# Altium integrated library NSC Interface.IntLib: 1288 symbols (part 1 of 45)
Pins are listed as number, name and electrical type; pins without a type are passive.

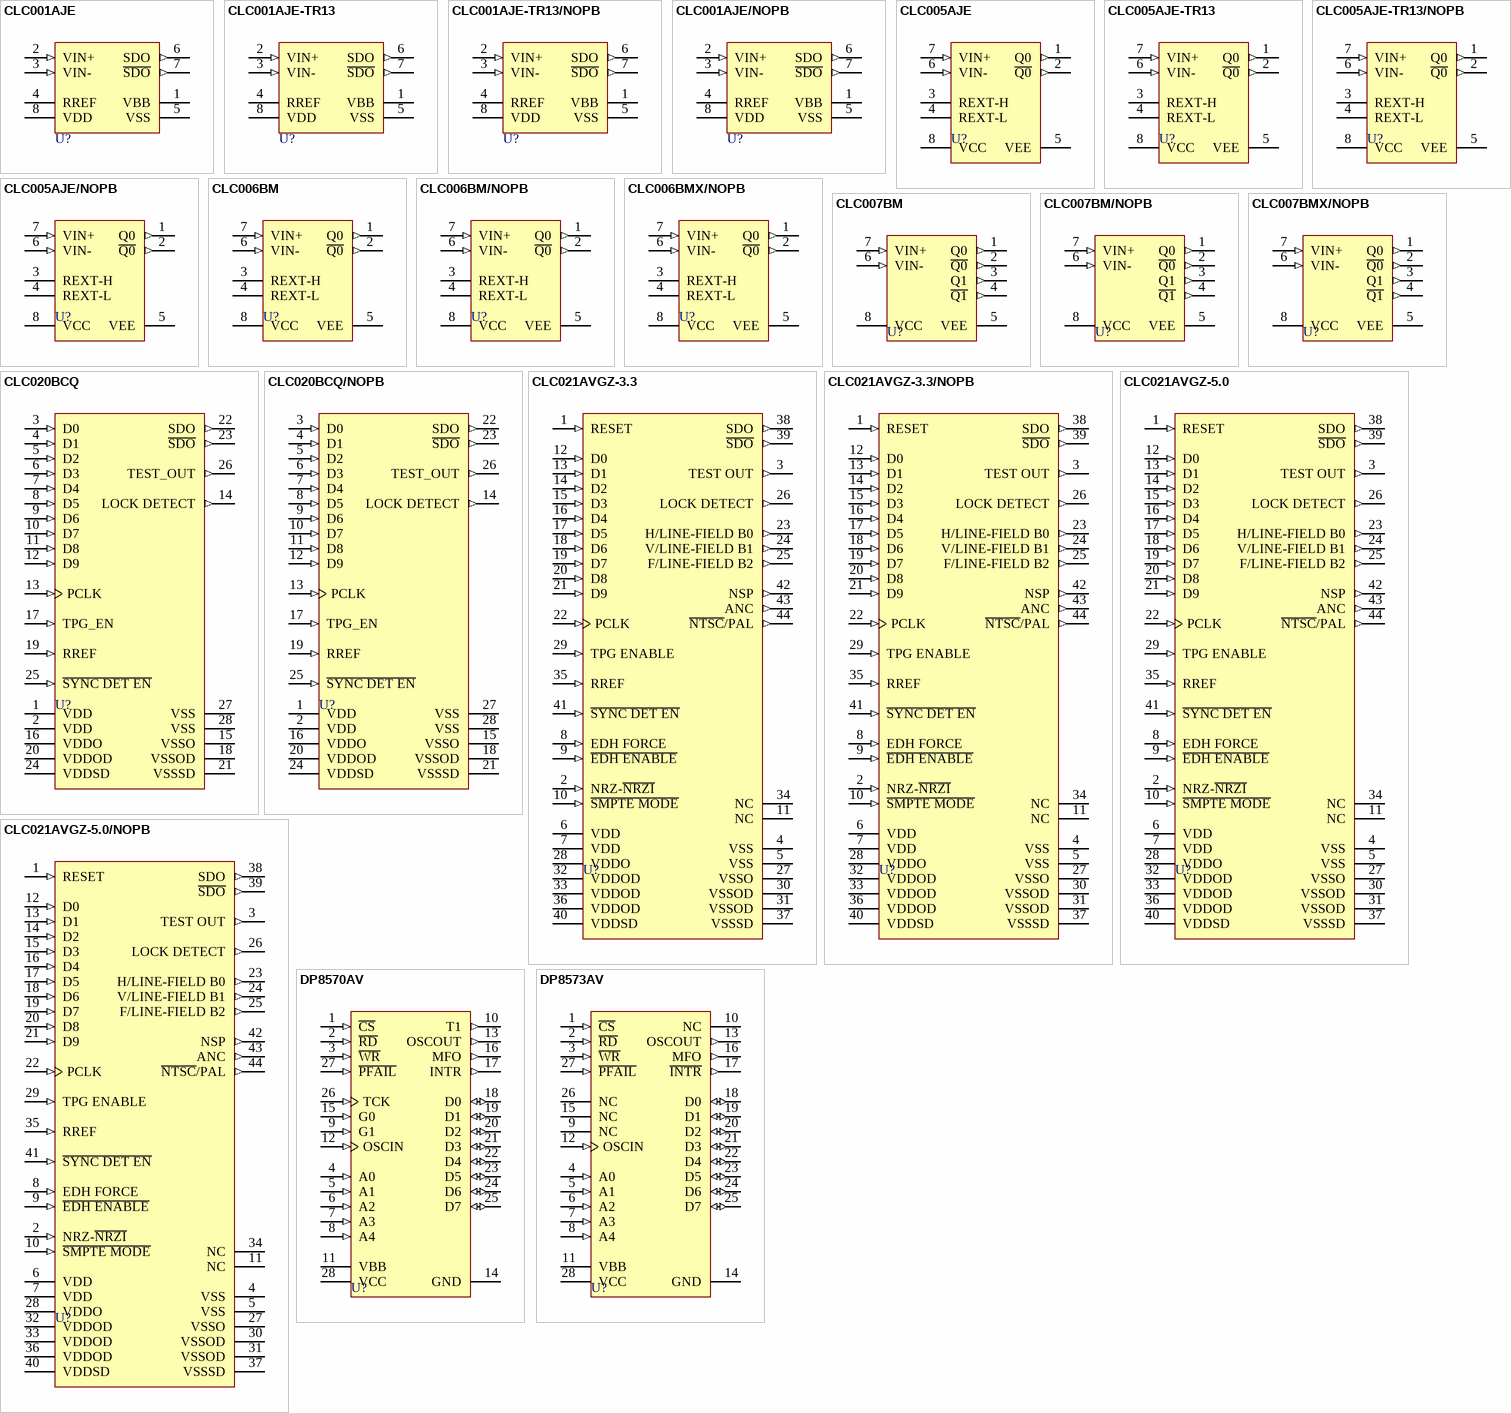
[diagram p0: symbols CLC001AJE to DP8573AV]

## CLC001AJE
designator U?
Serial Digital Cable Driver with Adjustable Outputs, 8-pin Narrow SOIC; PartNumber: CLC001AJE; Manufacturer: National Semiconductor; PackageTopMarking: NSZXTT*CLC00*1AJE; PowerWise: N; CompType: Interface IC; Published: 4-Dec-2008; DatasheetVersion: Feb-2006; PackageVersion: revM, May-2009; PackageReference: M08A; Publisher: Altium Limited; PackageDescription: SOIC Narrow, 4.9 x 3.9 x 1.45mm, 8 Lead, 1.27mm Pitch; RoHS: N; PinCount: 8; Code_JEDEC: MS-012-AA; Code_IPC: SOIC127P600-8; ComponentLink1Description: CLC001 Datasheet; ComponentLink1URL: http://www.national.com/ds/CL/CLC001.pdf; ComponentLink2Description: CLC001 Web Page; ComponentLink2URL: http://www.national.com/pf/CL/CLC001.html; ComponentLink3Description: M08A Package Page; ComponentLink3URL: http://www.national.com/packaging/folders/m08a.html
footprint M08A_N (SOIC, 8-Leads, Body 4.9x3.9mm, Pitch 1.27mm, IPC Medium Density)
footprint M08A_L (SOIC, 8-Leads, Body 4.9x3.9mm, Pitch 1.27mm, IPC High Density)
footprint M08A_M (SOIC, 8-Leads, Body 4.9x3.9mm, Pitch 1.27mm, IPC Low Density)
pins: 1 VBB (power), 2 VIN+ (in), 3 VIN- (in), 4 RREF, 5 VSS (power), 6 SDO (out), 7 ~{SDO} (out), 8 VDD (power)

## CLC001AJE-TR13
designator U?
Serial Digital Cable Driver with Adjustable Outputs, 8 pin SOIC NARROW; PartNumber: CLC001AJE-TR13; Manufacturer: National Semiconductor; PackageTopMarking: NSZXTT*CLC00*1AJE; PowerWise: N; CompType: Interface IC; Published: 16-Nov-2010; DatasheetVersion: Feb-2006; PackageVersion: revM, May-2009; PackageReference: M08A; Publisher: Altium Limited; PackageDescription: SOIC Narrow, 4.9 x 3.9 x 1.45mm, 8 Lead, 1.27mm Pitch; RoHS: N; PinCount: 8; Code_JEDEC: MS-012-AA; Code_IPC: SOIC127P600-8; ComponentLink1Description: CLC001 Datasheet; ComponentLink1URL: http://www.national.com/ds/CL/CLC001.pdf; ComponentLink2Description: CLC001 Web Page; ComponentLink2URL: http://www.national.com/pf/CL/CLC001.html; ComponentLink3Description: M08A Package Page; ComponentLink3URL: http://www.national.com/packaging/folders/m08a.html
footprint M08A_N (SOIC, 8-Leads, Body 4.9x3.9mm, Pitch 1.27mm, IPC Medium Density)
footprint M08A_L (SOIC, 8-Leads, Body 4.9x3.9mm, Pitch 1.27mm, IPC High Density)
footprint M08A_M (SOIC, 8-Leads, Body 4.9x3.9mm, Pitch 1.27mm, IPC Low Density)
pins: 1 VBB (power), 2 VIN+ (in), 3 VIN- (in), 4 RREF, 5 VSS (power), 6 SDO (out), 7 ~{SDO} (out), 8 VDD (power)

## CLC001AJE-TR13/NOPB
designator U?
Serial Digital Cable Driver with Adjustable Outputs, 8 pin SOIC NARROW; PartNumber: CLC001AJE-TR13/NOPB; Manufacturer: National Semiconductor; PackageTopMarking: NSZXTT*CLC00*1AJE; PowerWise: N; CompType: Interface IC; Published: 16-Nov-2010; DatasheetVersion: Feb-2006; PackageVersion: revM, May-2009; PackageReference: M08A; Publisher: Altium Limited; PackageDescription: SOIC Narrow, 4.9 x 3.9 x 1.45mm, 8 Lead, 1.27mm Pitch; Supplier 1: Digi-Key; Supplier Part Number 1: CLC001AJETR-ND; Supplier 2: Digi-Key; Supplier Part Number 2: CLC001AJECT-ND; Supplier 3: Digi-Key; Supplier Part Number 3: CLC001AJEDKR-ND; RoHS: Y; PinCount: 8; Code_JEDEC: MS-012-AA; Code_IPC: SOIC127P600-8; ComponentLink1Description: CLC001 Datasheet; ComponentLink1URL: http://www.national.com/ds/CL/CLC001.pdf; ComponentLink2Description: CLC001 Web Page; ComponentLink2URL: http://www.national.com/pf/CL/CLC001.html; ComponentLink3Description: M08A Package Page; ComponentLink3URL: http://www.national.com/packaging/folders/m08a.html
footprint M08A_N (SOIC, 8-Leads, Body 4.9x3.9mm, Pitch 1.27mm, IPC Medium Density)
footprint M08A_L (SOIC, 8-Leads, Body 4.9x3.9mm, Pitch 1.27mm, IPC High Density)
footprint M08A_M (SOIC, 8-Leads, Body 4.9x3.9mm, Pitch 1.27mm, IPC Low Density)
pins: 1 VBB (power), 2 VIN+ (in), 3 VIN- (in), 4 RREF, 5 VSS (power), 6 SDO (out), 7 ~{SDO} (out), 8 VDD (power)

## CLC001AJE/NOPB
designator U?
Serial Digital Cable Driver with Adjustable Outputs, 8 pin SOIC NARROW; PartNumber: CLC001AJE/NOPB; Manufacturer: National Semiconductor; PackageTopMarking: NSZXTT*CLC00*1AJE; PowerWise: N; CompType: Interface IC; Published: 16-Nov-2010; DatasheetVersion: Feb-2006; PackageVersion: revM, May-2009; PackageReference: M08A; Publisher: Altium Limited; PackageDescription: SOIC Narrow, 4.9 x 3.9 x 1.45mm, 8 Lead, 1.27mm Pitch; Supplier 1: Digi-Key; Supplier Part Number 1: CLC001AJE-ND; Supplier 2: Farnell; Supplier Part Number 2: 1693929; RoHS: Y; PinCount: 8; Code_JEDEC: MS-012-AA; Code_IPC: SOIC127P600-8; ComponentLink1Description: CLC001 Datasheet; ComponentLink1URL: http://www.national.com/ds/CL/CLC001.pdf; ComponentLink2Description: CLC001 Web Page; ComponentLink2URL: http://www.national.com/pf/CL/CLC001.html; ComponentLink3Description: M08A Package Page; ComponentLink3URL: http://www.national.com/packaging/folders/m08a.html
footprint M08A_N (SOIC, 8-Leads, Body 4.9x3.9mm, Pitch 1.27mm, IPC Medium Density)
footprint M08A_L (SOIC, 8-Leads, Body 4.9x3.9mm, Pitch 1.27mm, IPC High Density)
footprint M08A_M (SOIC, 8-Leads, Body 4.9x3.9mm, Pitch 1.27mm, IPC Low Density)
pins: 1 VBB (power), 2 VIN+ (in), 3 VIN- (in), 4 RREF, 5 VSS (power), 6 SDO (out), 7 ~{SDO} (out), 8 VDD (power)

## CLC005AJE
designator U?
ITU-T G.703 Cable Driver with Adjustable Outputs, 8-pin Narrow SOIC; PartNumber: CLC005AJE; Manufacturer: National Semiconductor; PackageTopMarking: NSZXTT*CLC00*5AJE; PowerWise: N; CompType: Interface IC; Published: 4-Dec-2008; DatasheetVersion: Aug-1998; PackageVersion: revM, May-2009; PackageReference: M08A; Publisher: Altium Limited; PackageDescription: SOIC Narrow, 4.9 x 3.9 x 1.45mm, 8 Lead, 1.27mm Pitch; RoHS: N; PinCount: 8; Code_JEDEC: MS-012-AA; Code_IPC: SOIC127P600-8; ComponentLink1Description: CLC005 Datasheet; ComponentLink1URL: http://www.national.com/ds/CL/CLC005.pdf; ComponentLink2Description: CLC005 Web Page; ComponentLink2URL: http://www.national.com/pf/CL/CLC005.html; ComponentLink3Description: M08A Package Page; ComponentLink3URL: http://www.national.com/packaging/folders/m08a.html
footprint M08A_N (SOIC, 8-Leads, Body 4.9x3.9mm, Pitch 1.27mm, IPC Medium Density)
footprint M08A_L (SOIC, 8-Leads, Body 4.9x3.9mm, Pitch 1.27mm, IPC High Density)
footprint M08A_M (SOIC, 8-Leads, Body 4.9x3.9mm, Pitch 1.27mm, IPC Low Density)
pins: 1 Q0 (out), 2 ~{Q0} (out), 3 REXT-H, 4 REXT-L, 5 VEE (power), 6 VIN- (in), 7 VIN+ (in), 8 VCC (power)

## CLC005AJE-TR13
designator U?
ITU-T G.703 Cable Driver with Adjustable Outputs, 8 pin SOIC NARROW; PartNumber: CLC005AJE-TR13; Manufacturer: National Semiconductor; PackageTopMarking: NSZXTT*CLC00*5AJE; PowerWise: N; CompType: Interface IC; Published: 16-Nov-2010; DatasheetVersion: Aug-1998; PackageVersion: revM, May-2009; PackageReference: M08A; Publisher: Altium Limited; PackageDescription: SOIC Narrow, 4.9 x 3.9 x 1.45mm, 8 Lead, 1.27mm Pitch; RoHS: N; PinCount: 8; Code_JEDEC: MS-012-AA; Code_IPC: SOIC127P600-8; ComponentLink1Description: CLC005 Datasheet; ComponentLink1URL: http://www.national.com/ds/CL/CLC005.pdf; ComponentLink2Description: CLC005 Web Page; ComponentLink2URL: http://www.national.com/pf/CL/CLC005.html; ComponentLink3Description: M08A Package Page; ComponentLink3URL: http://www.national.com/packaging/folders/m08a.html
footprint M08A_N (SOIC, 8-Leads, Body 4.9x3.9mm, Pitch 1.27mm, IPC Medium Density)
footprint M08A_L (SOIC, 8-Leads, Body 4.9x3.9mm, Pitch 1.27mm, IPC High Density)
footprint M08A_M (SOIC, 8-Leads, Body 4.9x3.9mm, Pitch 1.27mm, IPC Low Density)
pins: 1 Q0 (out), 2 ~{Q0} (out), 3 REXT-H, 4 REXT-L, 5 VEE (power), 6 VIN- (in), 7 VIN+ (in), 8 VCC (power)

## CLC005AJE-TR13/NOPB
designator U?
ITU-T G.703 Cable Driver with Adjustable Outputs, 8 pin SOIC NARROW; PartNumber: CLC005AJE-TR13/NOPB; Manufacturer: National Semiconductor; PackageTopMarking: NSZXTT*CLC00*5AJE; PowerWise: N; CompType: Interface IC; Published: 16-Nov-2010; DatasheetVersion: Aug-1998; PackageVersion: revM, May-2009; PackageReference: M08A; Publisher: Altium Limited; PackageDescription: SOIC Narrow, 4.9 x 3.9 x 1.45mm, 8 Lead, 1.27mm Pitch; Supplier 1: Digi-Key; Supplier Part Number 1: CLC005AJE-TR13-ND; RoHS: Y; PinCount: 8; Code_JEDEC: MS-012-AA; Code_IPC: SOIC127P600-8; ComponentLink1Description: CLC005 Datasheet; ComponentLink1URL: http://www.national.com/ds/CL/CLC005.pdf; ComponentLink2Description: CLC005 Web Page; ComponentLink2URL: http://www.national.com/pf/CL/CLC005.html; ComponentLink3Description: M08A Package Page; ComponentLink3URL: http://www.national.com/packaging/folders/m08a.html
footprint M08A_N (SOIC, 8-Leads, Body 4.9x3.9mm, Pitch 1.27mm, IPC Medium Density)
footprint M08A_L (SOIC, 8-Leads, Body 4.9x3.9mm, Pitch 1.27mm, IPC High Density)
footprint M08A_M (SOIC, 8-Leads, Body 4.9x3.9mm, Pitch 1.27mm, IPC Low Density)
pins: 1 Q0 (out), 2 ~{Q0} (out), 3 REXT-H, 4 REXT-L, 5 VEE (power), 6 VIN- (in), 7 VIN+ (in), 8 VCC (power)

## CLC005AJE/NOPB
designator U?
ITU-T G.703 Cable Driver with Adjustable Outputs, 8 pin SOIC NARROW; PartNumber: CLC005AJE/NOPB; Manufacturer: National Semiconductor; PackageTopMarking: NSZXTT*CLC00*5AJE; PowerWise: N; CompType: Interface IC; Published: 16-Nov-2010; DatasheetVersion: Aug-1998; PackageVersion: revM, May-2009; PackageReference: M08A; Publisher: Altium Limited; PackageDescription: SOIC Narrow, 4.9 x 3.9 x 1.45mm, 8 Lead, 1.27mm Pitch; Supplier 1: Digi-Key; Supplier Part Number 1: CLC005AJE-ND; RoHS: Y; PinCount: 8; Code_JEDEC: MS-012-AA; Code_IPC: SOIC127P600-8; ComponentLink1Description: CLC005 Datasheet; ComponentLink1URL: http://www.national.com/ds/CL/CLC005.pdf; ComponentLink2Description: CLC005 Web Page; ComponentLink2URL: http://www.national.com/pf/CL/CLC005.html; ComponentLink3Description: M08A Package Page; ComponentLink3URL: http://www.national.com/packaging/folders/m08a.html
footprint M08A_N (SOIC, 8-Leads, Body 4.9x3.9mm, Pitch 1.27mm, IPC Medium Density)
footprint M08A_L (SOIC, 8-Leads, Body 4.9x3.9mm, Pitch 1.27mm, IPC High Density)
footprint M08A_M (SOIC, 8-Leads, Body 4.9x3.9mm, Pitch 1.27mm, IPC Low Density)
pins: 1 Q0 (out), 2 ~{Q0} (out), 3 REXT-H, 4 REXT-L, 5 VEE (power), 6 VIN- (in), 7 VIN+ (in), 8 VCC (power)

## CLC006BM
designator U?
Serial Digital Cable Driver with Adjustable Outputs, 8-pin Narrow SOIC; PartNumber: CLC006BM; Manufacturer: National Semiconductor; PackageTopMarking: NSZXTT*CLC00*6BMDD; PowerWise: N; CompType: Interface IC; Published: 4-Dec-2008; DatasheetVersion: Oct-2007; PackageVersion: revM, May-2009; PackageReference: M08A; Publisher: Altium Limited; PackageDescription: SOIC Narrow, 4.9 x 3.9 x 1.45mm, 8 Lead, 1.27mm Pitch; RoHS: N; PinCount: 8; Code_JEDEC: MS-012-AA; Code_IPC: SOIC127P600-8; ComponentLink1Description: CLC006 Datasheet; ComponentLink1URL: http://www.national.com/ds/CL/CLC006.pdf; ComponentLink2Description: CLC006 Web Page; ComponentLink2URL: http://www.national.com/pf/CL/CLC006.html; ComponentLink3Description: M08A Package Page; ComponentLink3URL: http://www.national.com/packaging/folders/m08a.html
footprint M08A_N (SOIC, 8-Leads, Body 4.9x3.9mm, Pitch 1.27mm, IPC Medium Density)
footprint M08A_L (SOIC, 8-Leads, Body 4.9x3.9mm, Pitch 1.27mm, IPC High Density)
footprint M08A_M (SOIC, 8-Leads, Body 4.9x3.9mm, Pitch 1.27mm, IPC Low Density)
pins: 1 Q0 (out), 2 ~{Q0} (out), 3 REXT-H, 4 REXT-L, 5 VEE (power), 6 VIN- (in), 7 VIN+ (in), 8 VCC (power)

## CLC006BM/NOPB
designator U?
Serial Digital Cable Driver with Adjustable Outputs, 8 pin SOIC NARROW; PartNumber: CLC006BM/NOPB; Manufacturer: National Semiconductor; PackageTopMarking: NSZXTT*CLC00*6BMDD; PowerWise: N; CompType: Interface IC; Published: 16-Nov-2010; DatasheetVersion: Oct-2007; PackageVersion: revM, May-2009; PackageReference: M08A; Publisher: Altium Limited; PackageDescription: SOIC Narrow, 4.9 x 3.9 x 1.45mm, 8 Lead, 1.27mm Pitch; Supplier 1: Digi-Key; Supplier Part Number 1: CLC006BM-ND; RoHS: Y; PinCount: 8; Code_JEDEC: MS-012-AA; Code_IPC: SOIC127P600-8; ComponentLink1Description: CLC006 Datasheet; ComponentLink1URL: http://www.national.com/ds/CL/CLC006.pdf; ComponentLink2Description: CLC006 Web Page; ComponentLink2URL: http://www.national.com/pf/CL/CLC006.html; ComponentLink3Description: M08A Package Page; ComponentLink3URL: http://www.national.com/packaging/folders/m08a.html
footprint M08A_N (SOIC, 8-Leads, Body 4.9x3.9mm, Pitch 1.27mm, IPC Medium Density)
footprint M08A_L (SOIC, 8-Leads, Body 4.9x3.9mm, Pitch 1.27mm, IPC High Density)
footprint M08A_M (SOIC, 8-Leads, Body 4.9x3.9mm, Pitch 1.27mm, IPC Low Density)
pins: 1 Q0 (out), 2 ~{Q0} (out), 3 REXT-H, 4 REXT-L, 5 VEE (power), 6 VIN- (in), 7 VIN+ (in), 8 VCC (power)

## CLC006BMX/NOPB
designator U?
Serial Digital Cable Driver with Adjustable Outputs, 8 pin SOIC NARROW; PartNumber: CLC006BMX/NOPB; Manufacturer: National Semiconductor; PackageTopMarking: NSZXTT*CLC00*6BMDD; PowerWise: N; CompType: Interface IC; Published: 16-Nov-2010; DatasheetVersion: Oct-2007; PackageVersion: revM, May-2009; PackageReference: M08A; Publisher: Altium Limited; PackageDescription: SOIC Narrow, 4.9 x 3.9 x 1.45mm, 8 Lead, 1.27mm Pitch; Supplier 1: Digi-Key; Supplier Part Number 1: CLC006BMX-ND; RoHS: Y; PinCount: 8; Code_JEDEC: MS-012-AA; Code_IPC: SOIC127P600-8; ComponentLink1Description: CLC006 Datasheet; ComponentLink1URL: http://www.national.com/ds/CL/CLC006.pdf; ComponentLink2Description: CLC006 Web Page; ComponentLink2URL: http://www.national.com/pf/CL/CLC006.html; ComponentLink3Description: M08A Package Page; ComponentLink3URL: http://www.national.com/packaging/folders/m08a.html
footprint M08A_N (SOIC, 8-Leads, Body 4.9x3.9mm, Pitch 1.27mm, IPC Medium Density)
footprint M08A_L (SOIC, 8-Leads, Body 4.9x3.9mm, Pitch 1.27mm, IPC High Density)
footprint M08A_M (SOIC, 8-Leads, Body 4.9x3.9mm, Pitch 1.27mm, IPC Low Density)
pins: 1 Q0 (out), 2 ~{Q0} (out), 3 REXT-H, 4 REXT-L, 5 VEE (power), 6 VIN- (in), 7 VIN+ (in), 8 VCC (power)

## CLC007BM
designator U?
Serial Digital Cable Driver with Dual Complementary Outputs, 8-pin Narrow SOIC; PartNumber: CLC007BM; Manufacturer: National Semiconductor; PackageTopMarking: NSZXTT*CLC00*7BMDD; PowerWise: N; CompType: Interface IC; Published: 4-Dec-2008; DatasheetVersion: Oct-2007; PackageVersion: revM, May-2009; PackageReference: M08A; Publisher: Altium Limited; PackageDescription: SOIC Narrow, 4.9 x 3.9 x 1.45mm, 8 Lead, 1.27mm Pitch; RoHS: N; PinCount: 8; Code_JEDEC: MS-012-AA; Code_IPC: SOIC127P600-8; ComponentLink1Description: CLC007 Datasheet; ComponentLink1URL: http://www.national.com/ds/CL/CLC007.pdf; ComponentLink2Description: CLC007 Web Page; ComponentLink2URL: http://www.national.com/pf/CL/CLC007.html; ComponentLink3Description: M08A Package Page; ComponentLink3URL: http://www.national.com/packaging/folders/m08a.html
footprint M08A_N (SOIC, 8-Leads, Body 4.9x3.9mm, Pitch 1.27mm, IPC Medium Density)
footprint M08A_L (SOIC, 8-Leads, Body 4.9x3.9mm, Pitch 1.27mm, IPC High Density)
footprint M08A_M (SOIC, 8-Leads, Body 4.9x3.9mm, Pitch 1.27mm, IPC Low Density)
pins: 1 Q0 (out), 2 ~{Q0} (out), 3 Q1 (out), 4 ~{Q1} (out), 5 VEE (power), 6 VIN- (in), 7 VIN+ (in), 8 VCC (power)

## CLC007BM/NOPB
designator U?
Serial Digital Cable Driver with Dual Complementary Outputs, 8 pin SOIC NARROW; PartNumber: CLC007BM/NOPB; Manufacturer: National Semiconductor; PackageTopMarking: NSZXTT*CLC00*7BMDD; PowerWise: N; CompType: Interface IC; Published: 16-Nov-2010; DatasheetVersion: Oct-2007; PackageVersion: revM, May-2009; PackageReference: M08A; Publisher: Altium Limited; PackageDescription: SOIC Narrow, 4.9 x 3.9 x 1.45mm, 8 Lead, 1.27mm Pitch; Supplier 1: Digi-Key; Supplier Part Number 1: CLC007BM-ND; Supplier 2: Farnell; Supplier Part Number 2: 1685347; RoHS: Y; PinCount: 8; Code_JEDEC: MS-012-AA; Code_IPC: SOIC127P600-8; ComponentLink1Description: CLC007 Datasheet; ComponentLink1URL: http://www.national.com/ds/CL/CLC007.pdf; ComponentLink2Description: CLC007 Web Page; ComponentLink2URL: http://www.national.com/pf/CL/CLC007.html; ComponentLink3Description: M08A Package Page; ComponentLink3URL: http://www.national.com/packaging/folders/m08a.html
footprint M08A_N (SOIC, 8-Leads, Body 4.9x3.9mm, Pitch 1.27mm, IPC Medium Density)
footprint M08A_L (SOIC, 8-Leads, Body 4.9x3.9mm, Pitch 1.27mm, IPC High Density)
footprint M08A_M (SOIC, 8-Leads, Body 4.9x3.9mm, Pitch 1.27mm, IPC Low Density)
pins: 1 Q0 (out), 2 ~{Q0} (out), 3 Q1 (out), 4 ~{Q1} (out), 5 VEE (power), 6 VIN- (in), 7 VIN+ (in), 8 VCC (power)

## CLC007BMX/NOPB
designator U?
Serial Digital Cable Driver with Dual Complementary Outputs, 8 pin SOIC NARROW; PartNumber: CLC007BMX/NOPB; Manufacturer: National Semiconductor; PackageTopMarking: NSZXTT*CLC00*7BMDD; PowerWise: N; CompType: Interface IC; Published: 16-Nov-2010; DatasheetVersion: Oct-2007; PackageVersion: revM, May-2009; PackageReference: M08A; Publisher: Altium Limited; PackageDescription: SOIC Narrow, 4.9 x 3.9 x 1.45mm, 8 Lead, 1.27mm Pitch; Supplier 1: Digi-Key; Supplier Part Number 1: CLC007BMX-ND; RoHS: Y; PinCount: 8; Code_JEDEC: MS-012-AA; Code_IPC: SOIC127P600-8; ComponentLink1Description: CLC007 Datasheet; ComponentLink1URL: http://www.national.com/ds/CL/CLC007.pdf; ComponentLink2Description: CLC007 Web Page; ComponentLink2URL: http://www.national.com/pf/CL/CLC007.html; ComponentLink3Description: M08A Package Page; ComponentLink3URL: http://www.national.com/packaging/folders/m08a.html
footprint M08A_N (SOIC, 8-Leads, Body 4.9x3.9mm, Pitch 1.27mm, IPC Medium Density)
footprint M08A_L (SOIC, 8-Leads, Body 4.9x3.9mm, Pitch 1.27mm, IPC High Density)
footprint M08A_M (SOIC, 8-Leads, Body 4.9x3.9mm, Pitch 1.27mm, IPC Low Density)
pins: 1 Q0 (out), 2 ~{Q0} (out), 3 Q1 (out), 4 ~{Q1} (out), 5 VEE (power), 6 VIN- (in), 7 VIN+ (in), 8 VCC (power)

## CLC020BCQ
designator U?
SMPTE 259M Digital Video Serializer with Integrated Cable Driver, 28-pin PLCC; PartNumber: CLC020BCQ; Manufacturer: National Semiconductor; PackageTopMarking: NSUZXYYTTE#*CLC020BCQ; PowerWise: N; CompType: Interface IC; Published: 4-Dec-2008; DatasheetVersion: Jul-2003; PackageVersion: revK, Dec-1993; PackageReference: V28A; Publisher: Altium Limited; PackageDescription: Plastic Chip Carrier, Sq., .050in Pitch, 28 Lead; Supplier 1: Farnell; Supplier Part Number 1: 8221855; RoHS: N; PinCount: 28; Code_IPC: PLCC-28; ComponentLink1Description: CLC020 Datasheet; ComponentLink1URL: http://www.national.com/ds/CL/CLC020.pdf; ComponentLink2Description: CLC020 Web Page; ComponentLink2URL: http://www.national.com/pf/CL/CLC020.html; ComponentLink3Description: V28A Package Page; ComponentLink3URL: http://www.national.com/packaging/folders/v28a.html
footprint V28A_N (Leaded Chip Carrier, 28-Leads, Body 11.5x11.5mm, Pitch 1.27mm, IPC Medium Density)
footprint V28A_L (Leaded Chip Carrier, 28-Leads, Body 11.5x11.5mm, Pitch 1.27mm, IPC High Density)
footprint V28A_M (Leaded Chip Carrier, 28-Leads, Body 11.5x11.5mm, Pitch 1.27mm, IPC Low Density)
pins: 1 VDD (power), 2 VDD (power), 3 D0 (in), 4 D1 (in), 5 D2 (in), 6 D3 (in), 7 D4 (in), 8 D5 (in), 9 D6 (in), 10 D7 (in), 11 D8 (in), 12 D9 (in), 13 PCLK (in), 14 LOCK DETECT (out), 15 VSSO (power), 16 VDDO (power), 17 TPG_EN (in), 18 VSSOD (power), 19 RREF (in), 20 VDDOD (power), 21 VSSSD (power), 22 SDO (out), 23 ~{SDO} (out), 24 VDDSD (power), 25 ~{SYNC DET EN} (in), 26 TEST_OUT (out), 27 VSS (power), 28 VSS (power)

## CLC020BCQ/NOPB
designator U?
SMPTE 259M Digital Video Serializer with Integrated Cable Driver, 28 pin PLCC; PartNumber: CLC020BCQ/NOPB; Manufacturer: National Semiconductor; PackageTopMarking: NSUZXYYTTE#*CLC020BCQ; PowerWise: N; CompType: Interface IC; Published: 16-Nov-2010; DatasheetVersion: Jul-2003; PackageVersion: revK, Dec-1993; PackageReference: V28A; Publisher: Altium Limited; PackageDescription: Plastic Chip Carrier, Sq., .050in Pitch, 28 Lead; Supplier 1: Digi-Key; Supplier Part Number 1: CLC020BCQ-ND; RoHS: Y; PinCount: 28; Code_IPC: PLCC-28; ComponentLink1Description: CLC020 Datasheet; ComponentLink1URL: http://www.national.com/ds/CL/CLC020.pdf; ComponentLink2Description: CLC020 Web Page; ComponentLink2URL: http://www.national.com/pf/CL/CLC020.html; ComponentLink3Description: V28A Package Page; ComponentLink3URL: http://www.national.com/packaging/folders/v28a.html
footprint V28A_N (Leaded Chip Carrier, 28-Leads, Body 11.5x11.5mm, Pitch 1.27mm, IPC Medium Density)
footprint V28A_L (Leaded Chip Carrier, 28-Leads, Body 11.5x11.5mm, Pitch 1.27mm, IPC High Density)
footprint V28A_M (Leaded Chip Carrier, 28-Leads, Body 11.5x11.5mm, Pitch 1.27mm, IPC Low Density)
pins: 1 VDD (power), 2 VDD (power), 3 D0 (in), 4 D1 (in), 5 D2 (in), 6 D3 (in), 7 D4 (in), 8 D5 (in), 9 D6 (in), 10 D7 (in), 11 D8 (in), 12 D9 (in), 13 PCLK (in), 14 LOCK DETECT (out), 15 VSSO (power), 16 VDDO (power), 17 TPG_EN (in), 18 VSSOD (power), 19 RREF (in), 20 VDDOD (power), 21 VSSSD (power), 22 SDO (out), 23 ~{SDO} (out), 24 VDDSD (power), 25 ~{SYNC DET EN} (in), 26 TEST_OUT (out), 27 VSS (power), 28 VSS (power)

## CLC021AVGZ-3.3
designator U?
SMPTE 259M Digital Video Serializer with EDH Generation/Insertion, 44-pin PQFP; PartNumber: CLC021AVGZ-3.3; Manufacturer: National Semiconductor; PackageTopMarking: NSUZXYYTTE#*CLC021A*VGZ-3.3; PowerWise: N; CompType: Interface IC; Published: 4-Dec-2008; DatasheetVersion: Jul-2003; PackageVersion: revE, Feb-2003; PackageReference: VGZ44A; Publisher: Altium Limited; PackageDescription: PQFP, Jedec Metric, (S), 10 x 10 x 2.0mm Body, 44 Lead; RoHS: N; PinCount: 44; Code_JEDEC: MO-108-AA-1; Code_IPC: QFP80P1320X1320-44; ComponentLink1Description: CLC021 Datasheet; ComponentLink1URL: http://www.national.com/ds/CL/CLC021.pdf; ComponentLink2Description: CLC021 Web Page; ComponentLink2URL: http://www.national.com/pf/CL/CLC021.html; ComponentLink3Description: VGZ44A Package Page; ComponentLink3URL: http://www.national.com/packaging/folders/vgz44a.html
footprint VGZ44A_N (QFP, 44-Leads, Body 10x10mm, Pitch 0.8mm, IPC Medium Density)
footprint VGZ44A_L (QFP, 44-Leads, Body 10x10mm, Pitch 0.8mm, IPC High Density)
footprint VGZ44A_M (QFP, 44-Leads, Body 10x10mm, Pitch 0.8mm, IPC Low Density)
pins: 1 RESET (in), 2 NRZ-~{NRZI} (in), 3 TEST OUT (out), 4 VSS (power), 5 VSS (power), 6 VDD (power), 7 VDD (power), 8 EDH FORCE (in), 9 ~{EDH ENABLE} (in), 10 ~{SMPTE MODE} (in), 11 NC, 12 D0 (in), 13 D1 (in), 14 D2 (in), 15 D3 (in), 16 D4 (in), 17 D5 (in), 18 D6 (in), 19 D7 (in), 20 D8 (in), 21 D9 (in), 22 PCLK (in), 23 H/LINE-FIELD B0 (out), 24 V/LINE-FIELD B1 (out), 25 F/LINE-FIELD B2 (out), 26 LOCK DETECT (out), 27 VSSO (power), 28 VDDO (power), 29 TPG ENABLE (in), 30 VSSOD (power), 31 VSSOD (power), 32 VDDOD (power), 33 VDDOD (power), 34 NC, 35 RREF (in), 36 VDDOD (power), 37 VSSSD (power), 38 SDO (out), 39 ~{SDO} (out), 40 VDDSD (power), 41 ~{SYNC DET EN} (in), 42 NSP (out), 43 ANC (out), 44 ~{NTSC}/PAL (out)

## CLC021AVGZ-3.3/NOPB
designator U?
SMPTE 259M Digital Video Serializer with EDH Generation/Insertion, 44 pin PQFP; PartNumber: CLC021AVGZ-3.3/NOPB; Manufacturer: National Semiconductor; PackageTopMarking: NSUZXYYTTE#*CLC021A*VGZ-3.3; PowerWise: N; CompType: Interface IC; Published: 16-Nov-2010; DatasheetVersion: Jul-2003; PackageVersion: revE, Feb-2003; PackageReference: VGZ44A; Publisher: Altium Limited; PackageDescription: PQFP, Jedec Metric, (S), 10 x 10 x 2.0mm Body, 44 Lead; Supplier 1: Digi-Key; Supplier Part Number 1: CLC021AVGZ-3.3-ND; RoHS: Y; PinCount: 44; Code_JEDEC: MO-108-AA-1; Code_IPC: QFP80P1320X1320-44; ComponentLink1Description: CLC021 Datasheet; ComponentLink1URL: http://www.national.com/ds/CL/CLC021.pdf; ComponentLink2Description: CLC021 Web Page; ComponentLink2URL: http://www.national.com/pf/CL/CLC021.html; ComponentLink3Description: VGZ44A Package Page; ComponentLink3URL: http://www.national.com/packaging/folders/vgz44a.html
footprint VGZ44A_N (QFP, 44-Leads, Body 10x10mm, Pitch 0.8mm, IPC Medium Density)
footprint VGZ44A_L (QFP, 44-Leads, Body 10x10mm, Pitch 0.8mm, IPC High Density)
footprint VGZ44A_M (QFP, 44-Leads, Body 10x10mm, Pitch 0.8mm, IPC Low Density)
pins: 1 RESET (in), 2 NRZ-~{NRZI} (in), 3 TEST OUT (out), 4 VSS (power), 5 VSS (power), 6 VDD (power), 7 VDD (power), 8 EDH FORCE (in), 9 ~{EDH ENABLE} (in), 10 ~{SMPTE MODE} (in), 11 NC, 12 D0 (in), 13 D1 (in), 14 D2 (in), 15 D3 (in), 16 D4 (in), 17 D5 (in), 18 D6 (in), 19 D7 (in), 20 D8 (in), 21 D9 (in), 22 PCLK (in), 23 H/LINE-FIELD B0 (out), 24 V/LINE-FIELD B1 (out), 25 F/LINE-FIELD B2 (out), 26 LOCK DETECT (out), 27 VSSO (power), 28 VDDO (power), 29 TPG ENABLE (in), 30 VSSOD (power), 31 VSSOD (power), 32 VDDOD (power), 33 VDDOD (power), 34 NC, 35 RREF (in), 36 VDDOD (power), 37 VSSSD (power), 38 SDO (out), 39 ~{SDO} (out), 40 VDDSD (power), 41 ~{SYNC DET EN} (in), 42 NSP (out), 43 ANC (out), 44 ~{NTSC}/PAL (out)

## CLC021AVGZ-5.0
designator U?
SMPTE 259M Digital Video Serializer with EDH Generation/Insertion, 44-pin PQFP; PartNumber: CLC021AVGZ-5.0; Manufacturer: National Semiconductor; PackageTopMarking: NSUZXYYTTE#*CLC021A*VGZ-5.0; PowerWise: N; CompType: Interface IC; Published: 4-Dec-2008; DatasheetVersion: Jul-2003; PackageVersion: revE, Feb-2003; PackageReference: VGZ44A; Publisher: Altium Limited; PackageDescription: PQFP, Jedec Metric, (S), 10 x 10 x 2.0mm Body, 44 Lead; Supplier 1: Farnell; Supplier Part Number 1: 1495092; RoHS: N; PinCount: 44; Code_JEDEC: MO-108-AA-1; Code_IPC: QFP80P1320X1320-44; ComponentLink1Description: CLC021 Datasheet; ComponentLink1URL: http://www.national.com/ds/CL/CLC021.pdf; ComponentLink2Description: CLC021 Web Page; ComponentLink2URL: http://www.national.com/pf/CL/CLC021.html; ComponentLink3Description: VGZ44A Package Page; ComponentLink3URL: http://www.national.com/packaging/folders/vgz44a.html
footprint VGZ44A_N (QFP, 44-Leads, Body 10x10mm, Pitch 0.8mm, IPC Medium Density)
footprint VGZ44A_L (QFP, 44-Leads, Body 10x10mm, Pitch 0.8mm, IPC High Density)
footprint VGZ44A_M (QFP, 44-Leads, Body 10x10mm, Pitch 0.8mm, IPC Low Density)
pins: 1 RESET (in), 2 NRZ-~{NRZI} (in), 3 TEST OUT (out), 4 VSS (power), 5 VSS (power), 6 VDD (power), 7 VDD (power), 8 EDH FORCE (in), 9 ~{EDH ENABLE} (in), 10 ~{SMPTE MODE} (in), 11 NC, 12 D0 (in), 13 D1 (in), 14 D2 (in), 15 D3 (in), 16 D4 (in), 17 D5 (in), 18 D6 (in), 19 D7 (in), 20 D8 (in), 21 D9 (in), 22 PCLK (in), 23 H/LINE-FIELD B0 (out), 24 V/LINE-FIELD B1 (out), 25 F/LINE-FIELD B2 (out), 26 LOCK DETECT (out), 27 VSSO (power), 28 VDDO (power), 29 TPG ENABLE (in), 30 VSSOD (power), 31 VSSOD (power), 32 VDDOD (power), 33 VDDOD (power), 34 NC, 35 RREF (in), 36 VDDOD (power), 37 VSSSD (power), 38 SDO (out), 39 ~{SDO} (out), 40 VDDSD (power), 41 ~{SYNC DET EN} (in), 42 NSP (out), 43 ANC (out), 44 ~{NTSC}/PAL (out)

## CLC021AVGZ-5.0/NOPB
designator U?
SMPTE 259M Digital Video Serializer with EDH Generation/Insertion, 44 pin PQFP; PartNumber: CLC021AVGZ-5.0/NOPB; Manufacturer: National Semiconductor; PackageTopMarking: NSUZXYYTTE#*CLC021A*VGZ-5.0; PowerWise: N; CompType: Interface IC; Published: 16-Nov-2010; DatasheetVersion: Jul-2003; PackageVersion: revE, Feb-2003; PackageReference: VGZ44A; Publisher: Altium Limited; PackageDescription: PQFP, Jedec Metric, (S), 10 x 10 x 2.0mm Body, 44 Lead; Supplier 1: Digi-Key; Supplier Part Number 1: CLC021AVGZ-5.0-ND; RoHS: Y; PinCount: 44; Code_JEDEC: MO-108-AA-1; Code_IPC: QFP80P1320X1320-44; ComponentLink1Description: CLC021 Datasheet; ComponentLink1URL: http://www.national.com/ds/CL/CLC021.pdf; ComponentLink2Description: CLC021 Web Page; ComponentLink2URL: http://www.national.com/pf/CL/CLC021.html; ComponentLink3Description: VGZ44A Package Page; ComponentLink3URL: http://www.national.com/packaging/folders/vgz44a.html
footprint VGZ44A_N (QFP, 44-Leads, Body 10x10mm, Pitch 0.8mm, IPC Medium Density)
footprint VGZ44A_L (QFP, 44-Leads, Body 10x10mm, Pitch 0.8mm, IPC High Density)
footprint VGZ44A_M (QFP, 44-Leads, Body 10x10mm, Pitch 0.8mm, IPC Low Density)
pins: 1 RESET (in), 2 NRZ-~{NRZI} (in), 3 TEST OUT (out), 4 VSS (power), 5 VSS (power), 6 VDD (power), 7 VDD (power), 8 EDH FORCE (in), 9 ~{EDH ENABLE} (in), 10 ~{SMPTE MODE} (in), 11 NC, 12 D0 (in), 13 D1 (in), 14 D2 (in), 15 D3 (in), 16 D4 (in), 17 D5 (in), 18 D6 (in), 19 D7 (in), 20 D8 (in), 21 D9 (in), 22 PCLK (in), 23 H/LINE-FIELD B0 (out), 24 V/LINE-FIELD B1 (out), 25 F/LINE-FIELD B2 (out), 26 LOCK DETECT (out), 27 VSSO (power), 28 VDDO (power), 29 TPG ENABLE (in), 30 VSSOD (power), 31 VSSOD (power), 32 VDDOD (power), 33 VDDOD (power), 34 NC, 35 RREF (in), 36 VDDOD (power), 37 VSSSD (power), 38 SDO (out), 39 ~{SDO} (out), 40 VDDSD (power), 41 ~{SYNC DET EN} (in), 42 NSP (out), 43 ANC (out), 44 ~{NTSC}/PAL (out)

## DP8570AV
designator U?
Timer Control Peripheral (TCP), 28-pin PLCC; PartNumber: DP8570AV; Manufacturer: National Semiconductor; PackageTopMarking: NSUZXYYTTE#*DP8570AV; PowerWise: N; CompType: Interface IC; Published: 4-Dec-2008; DatasheetVersion: May-1993; PackageVersion: revK, Dec-1993; PackageReference: V28A; Publisher: Altium Limited; PackageDescription: Plastic Chip Carrier, Sq., .050in Pitch, 28 Lead; Supplier 1: Farnell; Supplier Part Number 1: 951456; RoHS: N; PinCount: 28; Code_IPC: PLCC-28; ComponentLink1Description: DP8570A Datasheet; ComponentLink1URL: http://www.national.com/ds/DP/DP8570A.pdf; ComponentLink2Description: DP8570A Web Page; ComponentLink2URL: http://www.national.com/pf/DP/DP8570A.html; ComponentLink3Description: V28A Package Page; ComponentLink3URL: http://www.national.com/packaging/folders/v28a.html
footprint V28A_N (Leaded Chip Carrier, 28-Leads, Body 11.5x11.5mm, Pitch 1.27mm, IPC Medium Density)
footprint V28A_L (Leaded Chip Carrier, 28-Leads, Body 11.5x11.5mm, Pitch 1.27mm, IPC High Density)
footprint V28A_M (Leaded Chip Carrier, 28-Leads, Body 11.5x11.5mm, Pitch 1.27mm, IPC Low Density)
pins: 1 ~{CS} (in), 2 ~{RD} (in), 3 ~{WR} (in), 4 A0 (in), 5 A1 (in), 6 A2 (in), 7 A3 (in), 8 A4 (in), 9 G1 (in), 10 T1 (out), 11 VBB (power), 12 OSCIN (in), 13 OSCOUT (out), 14 GND (power), 15 G0 (in), 16 MFO (out), 17 INTR (out), 18 D0 (io), 19 D1 (io), 20 D2 (io), 21 D3 (io), 22 D4 (io), 23 D5 (io), 24 D6 (io), 25 D7 (io), 26 TCK (in), 27 ~{PFAIL} (in), 28 VCC (power)

## DP8573AV
designator U?
Real Time Clock (RTC), 28-pin PLCC; PartNumber: DP8573AV; Manufacturer: National Semiconductor; PackageTopMarking: NSUZXYYTTE#*DP8573AV; PowerWise: N; CompType: Interface IC; Published: 4-Dec-2008; DatasheetVersion: May-1993; PackageVersion: revK, Dec-1993; PackageReference: V28A; Publisher: Altium Limited; PackageDescription: Plastic Chip Carrier, Sq., .050in Pitch, 28 Lead; RoHS: N; PinCount: 28; Code_IPC: PLCC-28; ComponentLink1Description: DP8573A Datasheet; ComponentLink1URL: http://www.national.com/ds/DP/DP8573A.pdf; ComponentLink2Description: DP8573A Web Page; ComponentLink2URL: http://www.national.com/pf/DP/DP8573A.html; ComponentLink3Description: V28A Package Page; ComponentLink3URL: http://www.national.com/packaging/folders/v28a.html
footprint V28A_N (Leaded Chip Carrier, 28-Leads, Body 11.5x11.5mm, Pitch 1.27mm, IPC Medium Density)
footprint V28A_L (Leaded Chip Carrier, 28-Leads, Body 11.5x11.5mm, Pitch 1.27mm, IPC High Density)
footprint V28A_M (Leaded Chip Carrier, 28-Leads, Body 11.5x11.5mm, Pitch 1.27mm, IPC Low Density)
pins: 1 ~{CS} (in), 2 ~{RD} (in), 3 ~{WR} (in), 4 A0 (in), 5 A1 (in), 6 A2 (in), 7 A3 (in), 8 A4 (in), 9 NC, 10 NC, 11 VBB (power), 12 OSCIN (in), 13 OSCOUT (out), 14 GND (power), 15 NC, 16 MFO (out), 17 ~{INTR} (out), 18 D0 (io), 19 D1 (io), 20 D2 (io), 21 D3 (io), 22 D4 (io), 23 D5 (io), 24 D6 (io), 25 D7 (io), 26 NC, 27 ~{PFAIL} (in), 28 VCC (power)

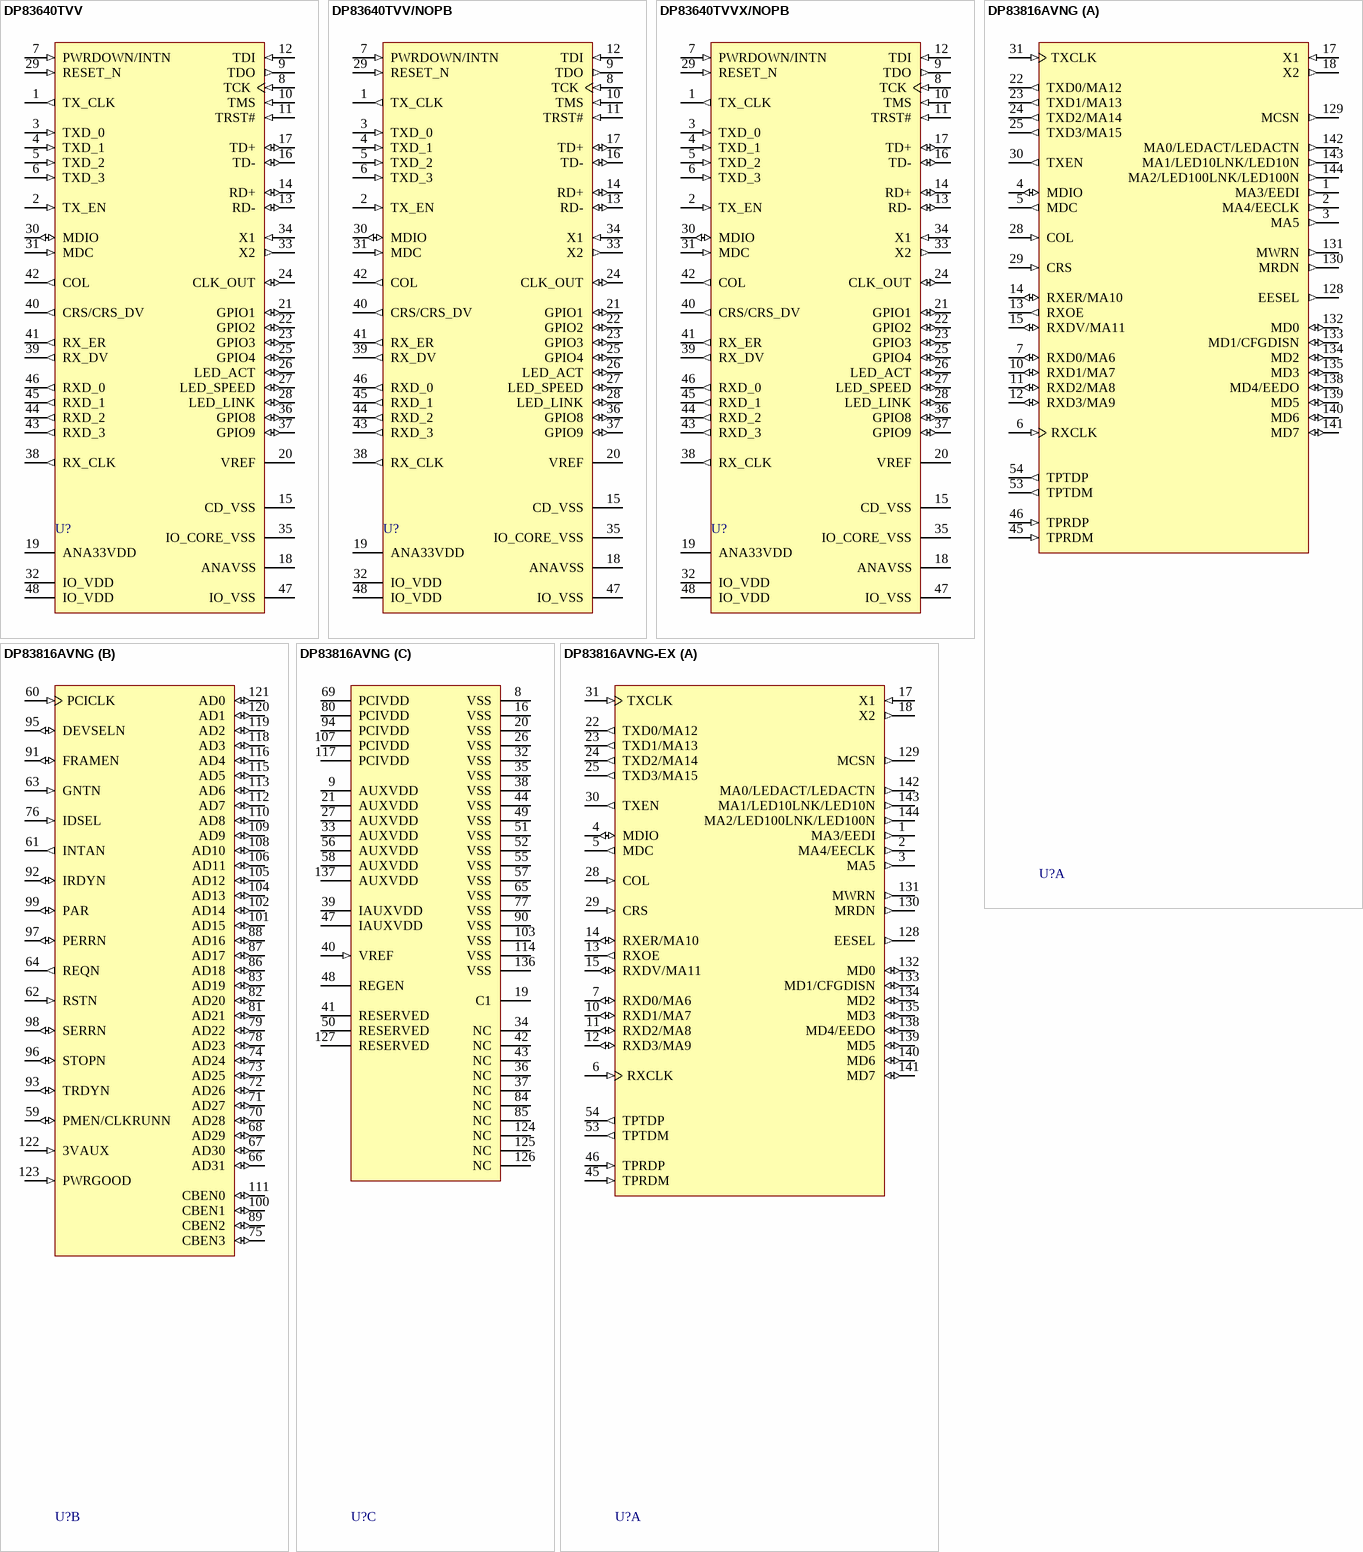
[diagram p1: symbols DP83640TVV to DP83816AVNG-EX]

## DP83640TVV
designator U?
Precision PHYTER® - IEEE® 1588 Precision Time Protocol Transceiver, 48-pin LQFP; PartNumber: DP83640TVV; Manufacturer: National Semiconductor; PackageTopMarking: NSUZXYTT*DP83640*TVV; PowerWise: N; CompType: Interface IC; Published: 4-Dec-2008; DatasheetVersion: Jan-2009; PackageVersion: revE, May-2007; PackageReference: VBH48A; Publisher: Altium Limited; PackageDescription: LQFP, 7 x 7 x 1.4mm, 48 Lead, 0.5mm Pitch; RoHS: N; PinCount: 48; ComponentLink1Description: DP83640 Datasheet; ComponentLink1URL: http://www.national.com/ds/DP/DP83640.pdf; ComponentLink2Description: DP83640 Web Page; ComponentLink2URL: http://www.national.com/pf/DP/DP83640.html; ComponentLink3Description: VBH48A Package Page; ComponentLink3URL: http://www.national.com/packaging/folders/vbh48a.html
footprint VBH48A_N (Thin QFP, 48-Leads, Body 7x7mm, Pitch 0.5mm, IPC Medium Density)
footprint VBH48A_L (Thin QFP, 48-Leads, Body 7x7mm, Pitch 0.5mm, IPC High Density)
footprint VBH48A_M (Thin QFP, 48-Leads, Body 7x7mm, Pitch 0.5mm, IPC Low Density)
pins: 1 TX_CLK (out), 2 TX_EN (in), 3 TXD_0 (in), 4 TXD_1 (in), 5 TXD_2 (in), 6 TXD_3 (in), 7 PWRDOWN/INTN (in), 8 TCK (in), 9 TDO (out), 10 TMS (in), 11 TRST# (in), 12 TDI (in), 13 RD- (io), 14 RD+ (io), 15 CD_VSS (power), 16 TD- (io), 17 TD+ (io), 18 ANAVSS (power), 19 ANA33VDD (power), 20 VREF (power), 21 GPIO1 (io), 22 GPIO2 (io), 23 GPIO3 (io), 24 CLK_OUT (io), 25 GPIO4 (io), 26 LED_ACT (io), 27 LED_SPEED (io), 28 LED_LINK (io), 29 RESET_N (in), 30 MDIO (io), 31 MDC (in), 32 IO_VDD (power), 33 X2 (out), 34 X1 (in), 35 IO_CORE_VSS (power), 36 GPIO8 (io), 37 GPIO9 (io), 38 RX_CLK (out), 39 RX_DV (out), 40 CRS/CRS_DV (out), 41 RX_ER (out), 42 COL (out), 43 RXD_3 (out), 44 RXD_2 (out), 45 RXD_1 (out), 46 RXD_0 (out), 47 IO_VSS (power), 48 IO_VDD (power)

## DP83640TVV/NOPB
designator U?
Precision PHYTER® - IEEE 1588 Precision Time Protocol Transceiver, 48-pin LQFP, Pb-Free; PartNumber: DP83640TVV/NOPB; Manufacturer: National Semiconductor; PackageTopMarking: NSUZXYTT*DP83640*TVV; PowerWise: N; CompType: Interface IC; Published: 1-Mar-2010; DatasheetVersion: Jan-2009; PackageVersion: revE, May-2007; PackageReference: VBH48A; Publisher: Altium Limited; PackageDescription: LQFP, 7 x 7 x 1.4mm, 48 Lead, 0.5mm Pitch; Supplier 1: Digi-Key; Supplier Part Number 1: DP83640TVV-ND; RoHS: Y; PinCount: 48; ComponentLink1Description: DP83640 Datasheet; ComponentLink1URL: http://www.national.com/ds/DP/DP83640.pdf; ComponentLink2Description: DP83640 Web Page; ComponentLink2URL: http://www.national.com/pf/DP/DP83640.html; ComponentLink3Description: VBH48A Package Page; ComponentLink3URL: http://www.national.com/packaging/folders/vbh48a.html
footprint VBH48A_N (Thin QFP, 48-Leads, Body 7x7mm, Pitch 0.5mm, IPC Medium Density)
footprint VBH48A_L (Thin QFP, 48-Leads, Body 7x7mm, Pitch 0.5mm, IPC High Density)
footprint VBH48A_M (Thin QFP, 48-Leads, Body 7x7mm, Pitch 0.5mm, IPC Low Density)
pins: 1 TX_CLK (out), 2 TX_EN (in), 3 TXD_0 (in), 4 TXD_1 (in), 5 TXD_2 (in), 6 TXD_3 (in), 7 PWRDOWN/INTN (in), 8 TCK (in), 9 TDO (out), 10 TMS (in), 11 TRST# (in), 12 TDI (in), 13 RD- (io), 14 RD+ (io), 15 CD_VSS (power), 16 TD- (io), 17 TD+ (io), 18 ANAVSS (power), 19 ANA33VDD (power), 20 VREF (power), 21 GPIO1 (io), 22 GPIO2 (io), 23 GPIO3 (io), 24 CLK_OUT (io), 25 GPIO4 (io), 26 LED_ACT (io), 27 LED_SPEED (io), 28 LED_LINK (io), 29 RESET_N (in), 30 MDIO (io), 31 MDC (in), 32 IO_VDD (power), 33 X2 (out), 34 X1 (in), 35 IO_CORE_VSS (power), 36 GPIO8 (io), 37 GPIO9 (io), 38 RX_CLK (out), 39 RX_DV (out), 40 CRS/CRS_DV (out), 41 RX_ER (out), 42 COL (out), 43 RXD_3 (out), 44 RXD_2 (out), 45 RXD_1 (out), 46 RXD_0 (out), 47 IO_VSS (power), 48 IO_VDD (power)

## DP83640TVVX/NOPB
designator U?
Precision PHYTER® - IEEE 1588 Precision Time Protocol Transceiver, 48-pin LQFP, Pb-Free; PartNumber: DP83640TVVX/NOPB; Manufacturer: National Semiconductor; PackageTopMarking: NSUZXYTT*DP83640*TVV; PowerWise: N; CompType: Interface IC; Published: 1-Mar-2010; DatasheetVersion: Jan-2009; PackageVersion: revE, May-2007; PackageReference: VBH48A; Publisher: Altium Limited; PackageDescription: LQFP, 7 x 7 x 1.4mm, 48 Lead, 0.5mm Pitch; Supplier 1: Digi-Key; Supplier Part Number 1: DP83640TVVX-ND; RoHS: Y; PinCount: 48; ComponentLink1Description: DP83640 Datasheet; ComponentLink1URL: http://www.national.com/ds/DP/DP83640.pdf; ComponentLink2Description: DP83640 Web Page; ComponentLink2URL: http://www.national.com/pf/DP/DP83640.html; ComponentLink3Description: VBH48A Package Page; ComponentLink3URL: http://www.national.com/packaging/folders/vbh48a.html
footprint VBH48A_N (Thin QFP, 48-Leads, Body 7x7mm, Pitch 0.5mm, IPC Medium Density)
footprint VBH48A_L (Thin QFP, 48-Leads, Body 7x7mm, Pitch 0.5mm, IPC High Density)
footprint VBH48A_M (Thin QFP, 48-Leads, Body 7x7mm, Pitch 0.5mm, IPC Low Density)
pins: 1 TX_CLK (out), 2 TX_EN (in), 3 TXD_0 (in), 4 TXD_1 (in), 5 TXD_2 (in), 6 TXD_3 (in), 7 PWRDOWN/INTN (in), 8 TCK (in), 9 TDO (out), 10 TMS (in), 11 TRST# (in), 12 TDI (in), 13 RD- (io), 14 RD+ (io), 15 CD_VSS (power), 16 TD- (io), 17 TD+ (io), 18 ANAVSS (power), 19 ANA33VDD (power), 20 VREF (power), 21 GPIO1 (io), 22 GPIO2 (io), 23 GPIO3 (io), 24 CLK_OUT (io), 25 GPIO4 (io), 26 LED_ACT (io), 27 LED_SPEED (io), 28 LED_LINK (io), 29 RESET_N (in), 30 MDIO (io), 31 MDC (in), 32 IO_VDD (power), 33 X2 (out), 34 X1 (in), 35 IO_CORE_VSS (power), 36 GPIO8 (io), 37 GPIO9 (io), 38 RX_CLK (out), 39 RX_DV (out), 40 CRS/CRS_DV (out), 41 RX_ER (out), 42 COL (out), 43 RXD_3 (out), 44 RXD_2 (out), 45 RXD_1 (out), 46 RXD_0 (out), 47 IO_VSS (power), 48 IO_VDD (power)

## DP83816AVNG
designator U?
10/100 Mb/s Integrated PCI Ethernet Media Access Controller and Physical Layer (MacPhyter-II), 144-pin LQFP; PartNumber: DP83816AVNG; Manufacturer: National Semiconductor; PackageTopMarking: NSUZXYYTTE#*DP83816AVNG; PowerWise: N; CompType: Interface IC; Published: 4-Dec-2008; DatasheetVersion: Sep-2005; PackageVersion: revF, Nov-1999; PackageReference: VNG144A; Publisher: Altium Limited; PackageDescription: LQFP, Jedec, Metric, 20 x 20 x 1.4mm, 144 Lead; Supplier 1: Farnell; Supplier Part Number 1: 7611298; RoHS: N; PinCount: 144; Code_JEDEC: MS-026-BFB; ComponentLink1Description: DP83816 Datasheet; ComponentLink1URL: http://www.national.com/ds/DP/DP83816.pdf; ComponentLink2Description: DP83816 Web Page; ComponentLink2URL: http://www.national.com/pf/DP/DP83816.html; ComponentLink3Description: VNG144A Package Page; ComponentLink3URL: http://www.national.com/packaging/folders/vng144a.html
footprint VNG144A_N (Thin QFP, 144-Leads, Body 20x20mm, Pitch 0.5mm, IPC Medium Density)
footprint VNG144A_L (Thin QFP, 144-Leads, Body 20x20mm, Pitch 0.5mm, IPC High Density)
footprint VNG144A_M (Thin QFP, 144-Leads, Body 20x20mm, Pitch 0.5mm, IPC Low Density)
part A pins: 1 MA3/EEDI (out), 2 MA4/EECLK (out), 3 MA5 (out), 4 MDIO (io), 5 MDC (out), 6 RXCLK (in), 7 RXD0/MA6 (io), 10 RXD1/MA7 (io), 11 RXD2/MA8 (io), 12 RXD3/MA9 (io), 13 RXOE (out), 14 RXER/MA10 (io), 15 RXDV/MA11 (io), 17 X1 (in), 18 X2 (out), 22 TXD0/MA12 (out), 23 TXD1/MA13 (out), 24 TXD2/MA14 (out), 25 TXD3/MA15 (out), 28 COL (in), 29 CRS (in), 30 TXEN (out), 31 TXCLK (in), 45 TPRDM (in), 46 TPRDP (in), 53 TPTDM (out), 54 TPTDP (out), 128 EESEL (out), 129 MCSN (out), 130 MRDN (out), 131 MWRN (out), 132 MD0 (io), 133 MD1/CFGDISN (io), 134 MD2 (io), 135 MD3 (io), 138 MD4/EEDO (io), 139 MD5 (io), 140 MD6 (io), 141 MD7 (io), 142 MA0/LEDACT/LEDACTN (out), 143 MA1/LED10LNK/LED10N (out), 144 MA2/LED100LNK/LED100N (out)
part B pins: 59 PMEN/CLKRUNN (io), 60 PCICLK (in), 61 INTAN (out), 62 RSTN (in), 63 GNTN (in), 64 REQN (out), 66 AD31 (io), 67 AD30 (io), 68 AD29 (io), 70 AD28 (io), 71 AD27 (io), 72 AD26 (io), 73 AD25 (io), 74 AD24 (io), 75 CBEN3 (io), 76 IDSEL (in), 78 AD23 (io), 79 AD22 (io), 81 AD21 (io), 82 AD20 (io), 83 AD19 (io), 86 AD18 (io), 87 AD17 (io), 88 AD16 (io), 89 CBEN2 (io), 91 FRAMEN (io), 92 IRDYN (io), 93 TRDYN (io), 95 DEVSELN (io), 96 STOPN (io), 97 PERRN (io), 98 SERRN (io), 99 PAR (io), 100 CBEN1 (io), 101 AD15 (io), 102 AD14 (io), 104 AD13 (io), 105 AD12 (io), 106 AD11 (io), 108 AD10 (io), 109 AD9 (io), 110 AD8 (io), 111 CBEN0 (io), 112 AD7 (io), 113 AD6 (io), 115 AD5 (io), 116 AD4 (io), 118 AD3 (io), 119 AD2 (io), 120 AD1 (io), 121 AD0 (io), 122 3VAUX (in), 123 PWRGOOD (in)
part C pins: 8 VSS (power), 9 AUXVDD (power), 16 VSS (power), 19 C1 (power), 20 VSS (power), 21 AUXVDD (power), 26 VSS (power), 27 AUXVDD (power), 32 VSS (power), 33 AUXVDD (power), 34 NC, 35 VSS (power), 36 NC, 37 NC, 38 VSS (power), 39 IAUXVDD (power), 40 VREF (in), 41 RESERVED, 42 NC, 43 NC, 44 VSS (power), 47 IAUXVDD (power), 48 REGEN, 49 VSS (power), 50 RESERVED, 51 VSS (power), 52 VSS (power), 55 VSS (power), 56 AUXVDD (power), 57 VSS (power), 58 AUXVDD (power), 65 VSS (power), 69 PCIVDD (power), 77 VSS (power), 80 PCIVDD (power), 84 NC, 85 NC, 90 VSS (power), 94 PCIVDD (power), 103 VSS (power), 107 PCIVDD (power), 114 VSS (power), 117 PCIVDD (power), 124 NC, 125 NC, 126 NC, 127 RESERVED, 136 VSS (power), 137 AUXVDD (power)

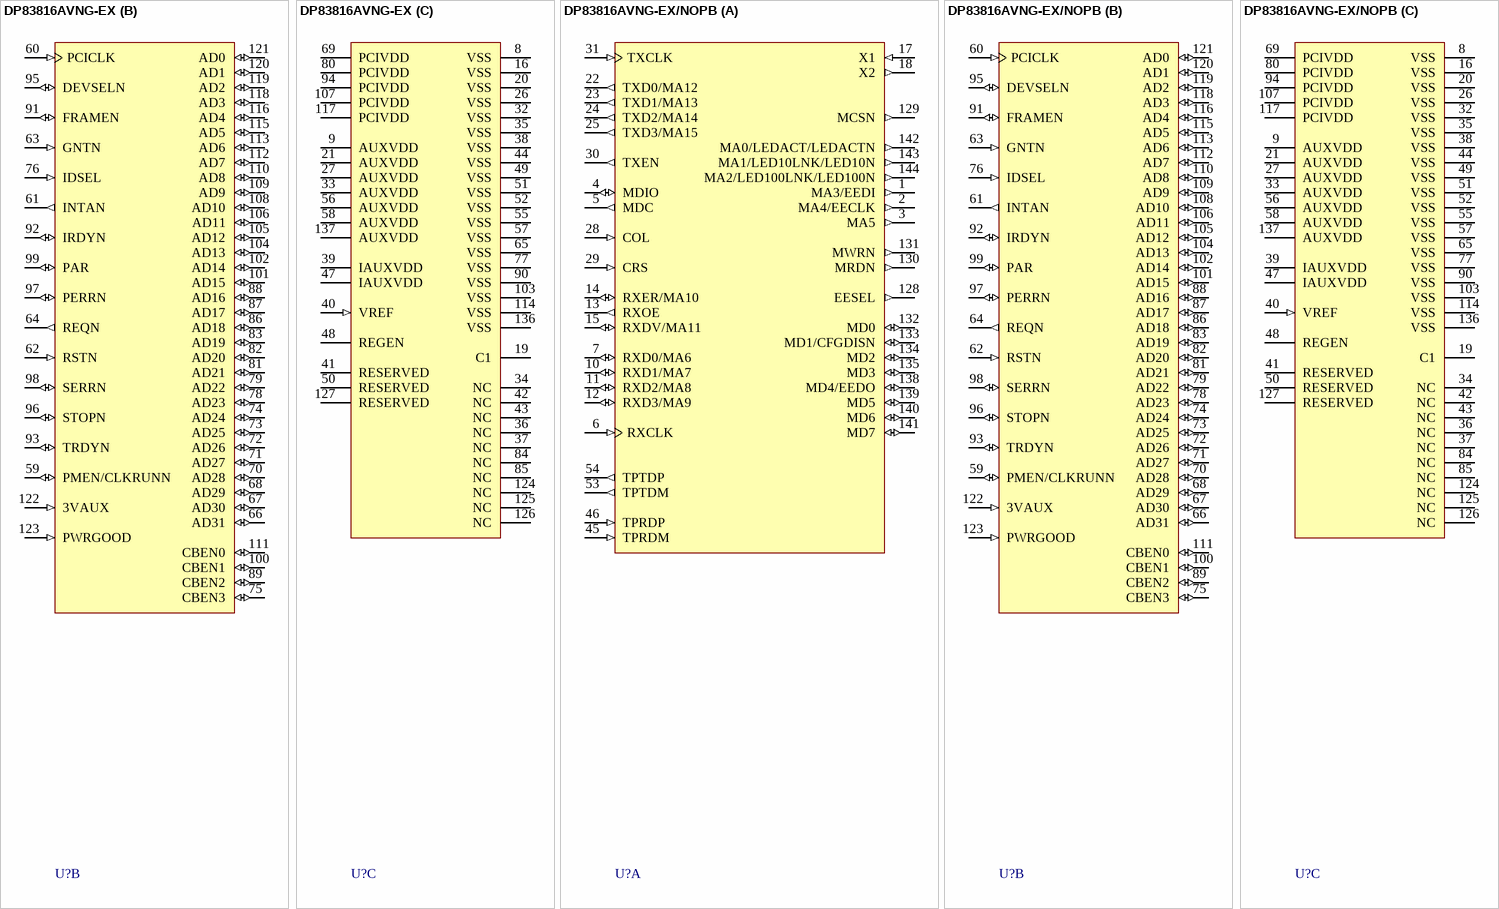
[diagram p2: symbols DP83816AVNG-EX to DP83816AVNG-EX/NOPB]

## DP83816AVNG-EX
designator U?
10/100 Mb/s Integrated PCI Ethernet Media Access Controller and Physical Layer (MacPhyter-II), 144-pin LQFP; PartNumber: DP83816AVNG-EX; Manufacturer: National Semiconductor; PackageTopMarking: NSUZXYYTTE#*DP83816AVNG-EX; PowerWise: N; CompType: Interface IC; Published: 4-Dec-2008; DatasheetVersion: May-2007; PackageVersion: revF, Nov-1999; PackageReference: VNG144A; Publisher: Altium Limited; PackageDescription: LQFP, Jedec, Metric, 20 x 20 x 1.4mm, 144 Lead; RoHS: Y; PinCount: 144; Code_JEDEC: MS-026-BFB; ComponentLink1Description: DP83816 Datasheet; ComponentLink1URL: http://www.national.com/ds/DP/DP83816EX.pdf; ComponentLink2Description: DP83816 Web Page; ComponentLink2URL: http://www.national.com/pf/DP/DP83816.html; ComponentLink3Description: VNG144A Package Page; ComponentLink3URL: http://www.national.com/packaging/folders/vng144a.html
footprint VNG144A_N (Thin QFP, 144-Leads, Body 20x20mm, Pitch 0.5mm, IPC Medium Density)
footprint VNG144A_L (Thin QFP, 144-Leads, Body 20x20mm, Pitch 0.5mm, IPC High Density)
footprint VNG144A_M (Thin QFP, 144-Leads, Body 20x20mm, Pitch 0.5mm, IPC Low Density)
part A pins: 1 MA3/EEDI (out), 2 MA4/EECLK (out), 3 MA5 (out), 4 MDIO (io), 5 MDC (out), 6 RXCLK (in), 7 RXD0/MA6 (io), 10 RXD1/MA7 (io), 11 RXD2/MA8 (io), 12 RXD3/MA9 (io), 13 RXOE (out), 14 RXER/MA10 (io), 15 RXDV/MA11 (io), 17 X1 (in), 18 X2 (out), 22 TXD0/MA12 (out), 23 TXD1/MA13 (out), 24 TXD2/MA14 (out), 25 TXD3/MA15 (out), 28 COL (in), 29 CRS (in), 30 TXEN (out), 31 TXCLK (in), 45 TPRDM (in), 46 TPRDP (in), 53 TPTDM (out), 54 TPTDP (out), 128 EESEL (out), 129 MCSN (out), 130 MRDN (out), 131 MWRN (out), 132 MD0 (io), 133 MD1/CFGDISN (io), 134 MD2 (io), 135 MD3 (io), 138 MD4/EEDO (io), 139 MD5 (io), 140 MD6 (io), 141 MD7 (io), 142 MA0/LEDACT/LEDACTN (out), 143 MA1/LED10LNK/LED10N (out), 144 MA2/LED100LNK/LED100N (out)
part B pins: 59 PMEN/CLKRUNN (io), 60 PCICLK (in), 61 INTAN (out), 62 RSTN (in), 63 GNTN (in), 64 REQN (out), 66 AD31 (io), 67 AD30 (io), 68 AD29 (io), 70 AD28 (io), 71 AD27 (io), 72 AD26 (io), 73 AD25 (io), 74 AD24 (io), 75 CBEN3 (io), 76 IDSEL (in), 78 AD23 (io), 79 AD22 (io), 81 AD21 (io), 82 AD20 (io), 83 AD19 (io), 86 AD18 (io), 87 AD17 (io), 88 AD16 (io), 89 CBEN2 (io), 91 FRAMEN (io), 92 IRDYN (io), 93 TRDYN (io), 95 DEVSELN (io), 96 STOPN (io), 97 PERRN (io), 98 SERRN (io), 99 PAR (io), 100 CBEN1 (io), 101 AD15 (io), 102 AD14 (io), 104 AD13 (io), 105 AD12 (io), 106 AD11 (io), 108 AD10 (io), 109 AD9 (io), 110 AD8 (io), 111 CBEN0 (io), 112 AD7 (io), 113 AD6 (io), 115 AD5 (io), 116 AD4 (io), 118 AD3 (io), 119 AD2 (io), 120 AD1 (io), 121 AD0 (io), 122 3VAUX (in), 123 PWRGOOD (in)
part C pins: 8 VSS (power), 9 AUXVDD (power), 16 VSS (power), 19 C1 (power), 20 VSS (power), 21 AUXVDD (power), 26 VSS (power), 27 AUXVDD (power), 32 VSS (power), 33 AUXVDD (power), 34 NC, 35 VSS (power), 36 NC, 37 NC, 38 VSS (power), 39 IAUXVDD (power), 40 VREF (in), 41 RESERVED, 42 NC, 43 NC, 44 VSS (power), 47 IAUXVDD (power), 48 REGEN, 49 VSS (power), 50 RESERVED, 51 VSS (power), 52 VSS (power), 55 VSS (power), 56 AUXVDD (power), 57 VSS (power), 58 AUXVDD (power), 65 VSS (power), 69 PCIVDD (power), 77 VSS (power), 80 PCIVDD (power), 84 NC, 85 NC, 90 VSS (power), 94 PCIVDD (power), 103 VSS (power), 107 PCIVDD (power), 114 VSS (power), 117 PCIVDD (power), 124 NC, 125 NC, 126 NC, 127 RESERVED, 136 VSS (power), 137 AUXVDD (power)

## DP83816AVNG-EX/NOPB
designator U?
10/100 Mb/s Integrated PCI Ethernet Media Access Controller and Physical Layer (MacPhyter-II) Extended Temperature Range 0 to 85°C, 144-pin LQFP, Pb-Free; PartNumber: DP83816AVNG-EX/NOPB; Manufacturer: National Semiconductor; PackageTopMarking: NSUZXYYTTE#*DP83816AVNG-EX; PowerWise: N; CompType: Interface IC; Published: 1-Mar-2010; DatasheetVersion: May-2007; PackageVersion: revF, Nov-1999; PackageReference: VNG144A; Publisher: Altium Limited; PackageDescription: LQFP, Jedec, Metric, 20 x 20 x 1.4mm, 144 Lead; Supplier 1: Digi-Key; Supplier Part Number 1: DP83816AVNG-EX-ND; RoHS: Y; PinCount: 144; Code_JEDEC: MS-026-BFB; ComponentLink1Description: DP83816 Datasheet; ComponentLink1URL: http://www.national.com/ds/DP/DP83816EX.pdf; ComponentLink2Description: DP83816 Web Page; ComponentLink2URL: http://www.national.com/pf/DP/DP83816.html; ComponentLink3Description: VNG144A Package Page; ComponentLink3URL: http://www.national.com/packaging/folders/vng144a.html
footprint VNG144A_N (Thin QFP, 144-Leads, Body 20x20mm, Pitch 0.5mm, IPC Medium Density)
footprint VNG144A_L (Thin QFP, 144-Leads, Body 20x20mm, Pitch 0.5mm, IPC High Density)
footprint VNG144A_M (Thin QFP, 144-Leads, Body 20x20mm, Pitch 0.5mm, IPC Low Density)
part A pins: 1 MA3/EEDI (out), 2 MA4/EECLK (out), 3 MA5 (out), 4 MDIO (io), 5 MDC (out), 6 RXCLK (in), 7 RXD0/MA6 (io), 10 RXD1/MA7 (io), 11 RXD2/MA8 (io), 12 RXD3/MA9 (io), 13 RXOE (out), 14 RXER/MA10 (io), 15 RXDV/MA11 (io), 17 X1 (in), 18 X2 (out), 22 TXD0/MA12 (out), 23 TXD1/MA13 (out), 24 TXD2/MA14 (out), 25 TXD3/MA15 (out), 28 COL (in), 29 CRS (in), 30 TXEN (out), 31 TXCLK (in), 45 TPRDM (in), 46 TPRDP (in), 53 TPTDM (out), 54 TPTDP (out), 128 EESEL (out), 129 MCSN (out), 130 MRDN (out), 131 MWRN (out), 132 MD0 (io), 133 MD1/CFGDISN (io), 134 MD2 (io), 135 MD3 (io), 138 MD4/EEDO (io), 139 MD5 (io), 140 MD6 (io), 141 MD7 (io), 142 MA0/LEDACT/LEDACTN (out), 143 MA1/LED10LNK/LED10N (out), 144 MA2/LED100LNK/LED100N (out)
part B pins: 59 PMEN/CLKRUNN (io), 60 PCICLK (in), 61 INTAN (out), 62 RSTN (in), 63 GNTN (in), 64 REQN (out), 66 AD31 (io), 67 AD30 (io), 68 AD29 (io), 70 AD28 (io), 71 AD27 (io), 72 AD26 (io), 73 AD25 (io), 74 AD24 (io), 75 CBEN3 (io), 76 IDSEL (in), 78 AD23 (io), 79 AD22 (io), 81 AD21 (io), 82 AD20 (io), 83 AD19 (io), 86 AD18 (io), 87 AD17 (io), 88 AD16 (io), 89 CBEN2 (io), 91 FRAMEN (io), 92 IRDYN (io), 93 TRDYN (io), 95 DEVSELN (io), 96 STOPN (io), 97 PERRN (io), 98 SERRN (io), 99 PAR (io), 100 CBEN1 (io), 101 AD15 (io), 102 AD14 (io), 104 AD13 (io), 105 AD12 (io), 106 AD11 (io), 108 AD10 (io), 109 AD9 (io), 110 AD8 (io), 111 CBEN0 (io), 112 AD7 (io), 113 AD6 (io), 115 AD5 (io), 116 AD4 (io), 118 AD3 (io), 119 AD2 (io), 120 AD1 (io), 121 AD0 (io), 122 3VAUX (in), 123 PWRGOOD (in)
part C pins: 8 VSS (power), 9 AUXVDD (power), 16 VSS (power), 19 C1 (power), 20 VSS (power), 21 AUXVDD (power), 26 VSS (power), 27 AUXVDD (power), 32 VSS (power), 33 AUXVDD (power), 34 NC, 35 VSS (power), 36 NC, 37 NC, 38 VSS (power), 39 IAUXVDD (power), 40 VREF (in), 41 RESERVED, 42 NC, 43 NC, 44 VSS (power), 47 IAUXVDD (power), 48 REGEN, 49 VSS (power), 50 RESERVED, 51 VSS (power), 52 VSS (power), 55 VSS (power), 56 AUXVDD (power), 57 VSS (power), 58 AUXVDD (power), 65 VSS (power), 69 PCIVDD (power), 77 VSS (power), 80 PCIVDD (power), 84 NC, 85 NC, 90 VSS (power), 94 PCIVDD (power), 103 VSS (power), 107 PCIVDD (power), 114 VSS (power), 117 PCIVDD (power), 124 NC, 125 NC, 126 NC, 127 RESERVED, 136 VSS (power), 137 AUXVDD (power)

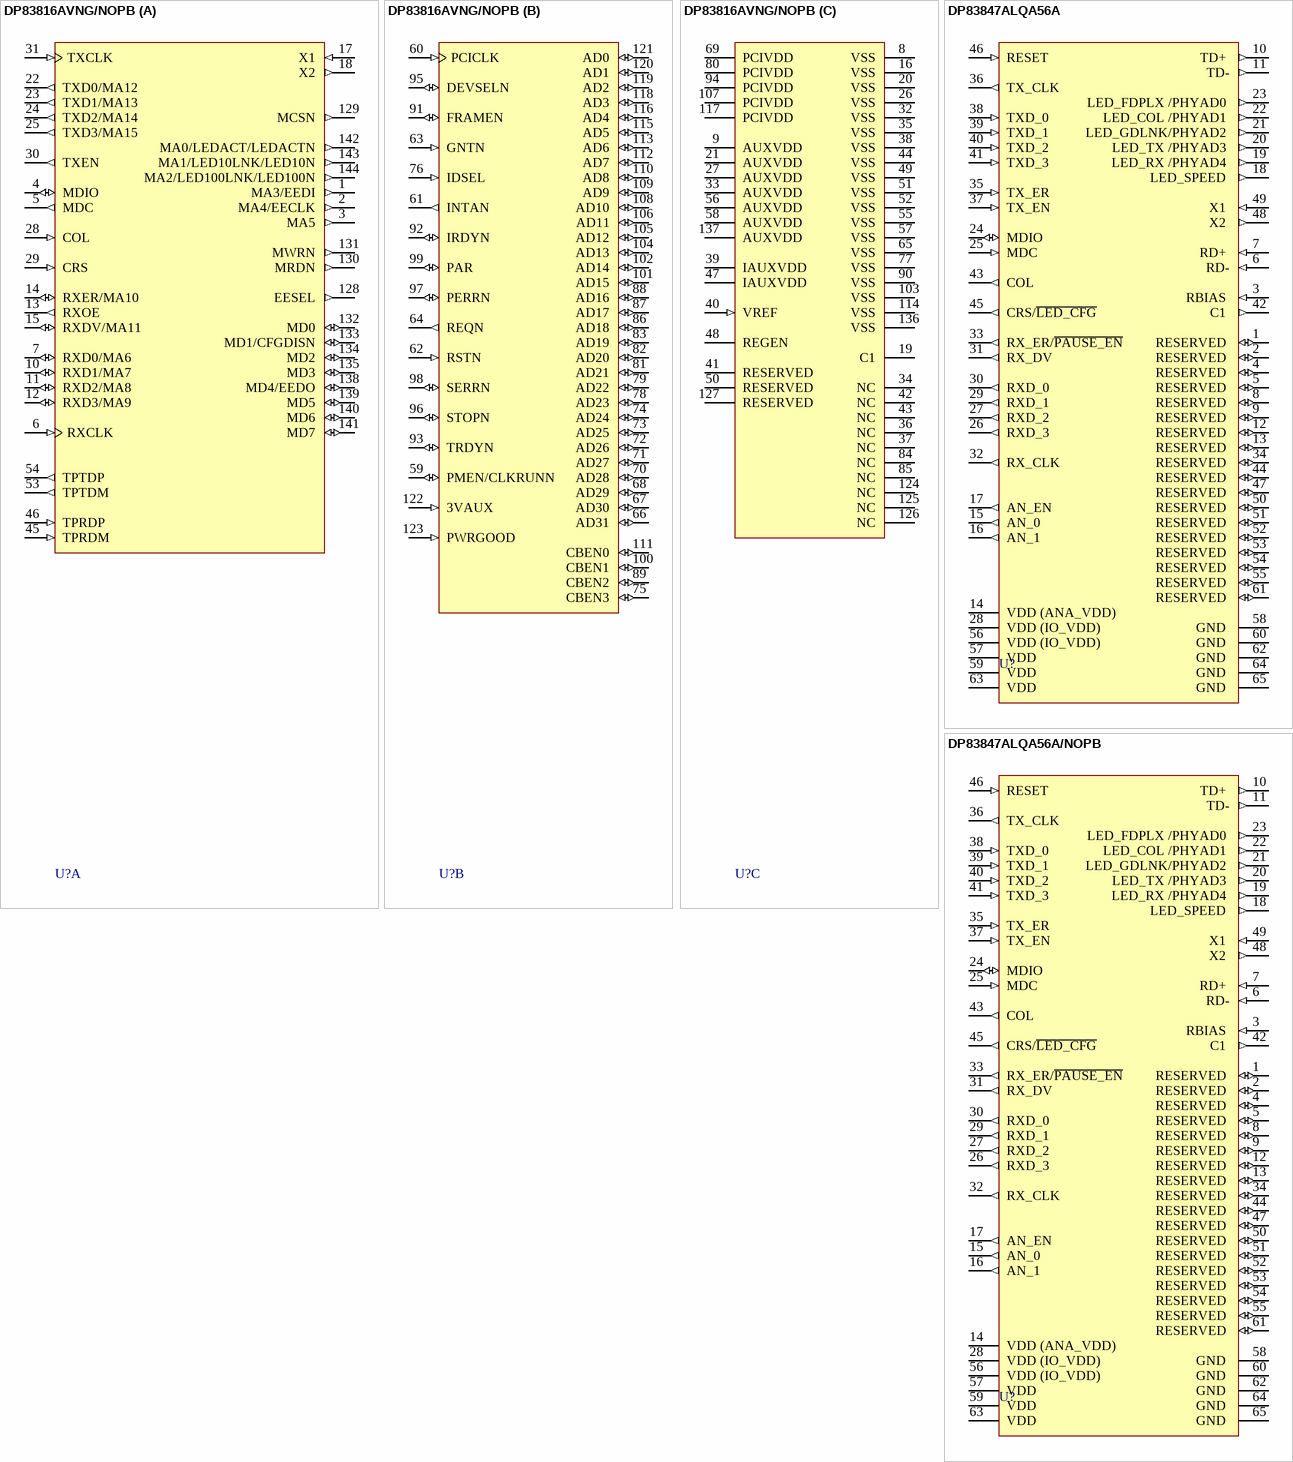
[diagram p3: symbols DP83816AVNG/NOPB to DP83847ALQA56A/NOPB]